# EAGLE library part MM74HC164M (library Fairchild_By_element14_Batch_1)
8-Bit Serial-in/Parallel-out Shift Register
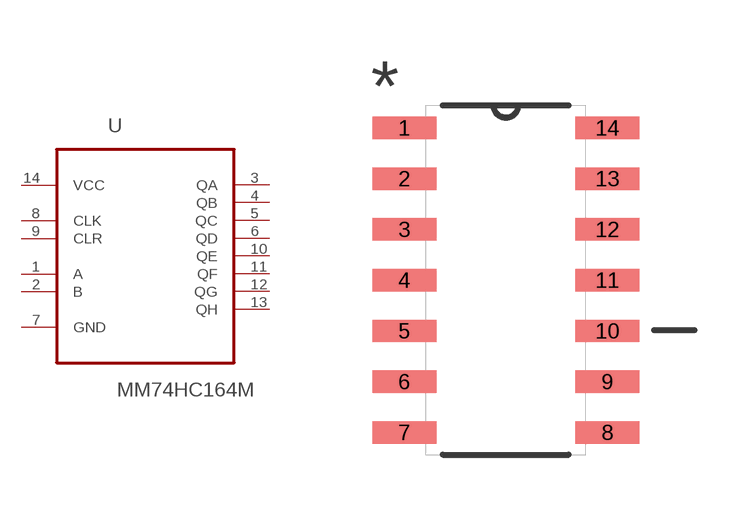
[diagram p255: symbol with the pads of SOIC127P600X175-14N; footprint SOIC127P600X175-14N]

Designator prefix U

## MM74HC164M (MPN: MM74HC164M; OC_FARNELL: 1013966; OC_NEWARK: 78K6067; PACKAGE: SOIC-14; SUPPLIER: Fairchild)  [SOIC127P600X175-14N]
1  A  in
2  B  in
3  QA  out
4  QB  out
5  QC  out
6  QD  out
7  GND  pas
8  CLK  in
9  CLR  in
10  QE  out
11  QF  out
12  QG  out
13  QH  out
14  VCC  pwr

## Footprint SOIC127P600X175-14N (pad centres in mm)
smd 1.6 x 0.559: 1 -2.54,3.81; 2 -2.54,2.54; 3 -2.54,1.27; 4 -2.54,0; 5 -2.54,-1.27; 6 -2.54,-2.54; 7 -2.54,-3.81; 8 2.54,-3.81; 9 2.54,-2.54; 10 2.54,-1.27; 11 2.54,0; 12 2.54,1.27; 13 2.54,2.54; 14 2.54,3.81